# EAGLE library part QTPY (library 154N_NAU7802_TH)
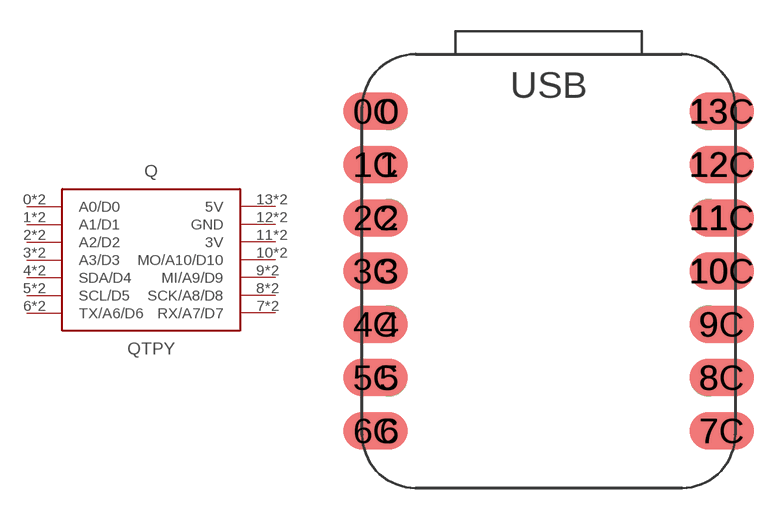
[diagram p6: symbol with the pads of QTPY; footprint QTPY]

Designator prefix Q

## QTPY  [QTPY]
0  A0/D0
0C  A0/D0
1  A1/D1
1C  A1/D1
2  A2/D2
2C  A2/D2
3  A3/D3
3C  A3/D3
4  SDA/D4
4C  SDA/D4
5  SCL/D5
5C  SCL/D5
6  TX/A6/D6
6C  TX/A6/D6
7  RX/A7/D7
7C  RX/A7/D7
8  SCK/A8/D8
8C  SCK/A8/D8
9  MI/A9/D9
9C  MI/A9/D9
10  MO/A10/D10
10C  MO/A10/D10
11  3V
11C  3V
12  GND
12C  GND
13  5V
13C  5V

## Footprint QTPY (pad centres in mm)
drill 1 pad 1.778: 0 -7.62,7.62; 1 -7.62,5.08; 2 -7.62,2.54; 3 -7.62,0; 4 -7.62,-2.54; 5 -7.62,-5.08; 6 -7.62,-7.62; 7 7.62,-7.62; 8 7.62,-5.08; 9 7.62,-2.54; 10 7.62,0; 11 7.62,2.54; 12 7.62,5.08; 13 7.62,7.62
smd 3.048 x 1.778: 0C -8.255,7.62; 1C -8.255,5.08; 2C -8.255,2.54; 3C -8.255,0; 4C -8.255,-2.54; 5C -8.255,-5.08; 6C -8.255,-7.62; 7C 8.255,-7.62; 8C 8.255,-5.08; 9C 8.255,-2.54; 10C 8.255,0; 11C 8.255,2.54; 12C 8.255,5.08; 13C 8.255,7.62